# EAGLE library part NU32V7_SLIDE_SW (library CC1310F128RGZT)
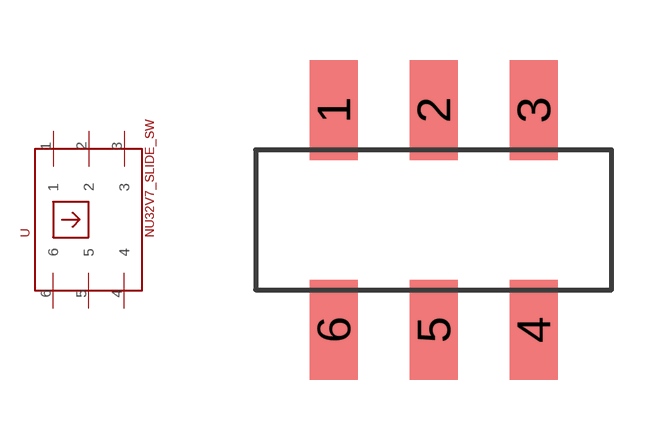
[diagram p4: symbol with the pads of NU32V7_SLIDE_SW; footprint NU32V7_SLIDE_SW]

Designator prefix -

## NU32V7_SLIDE_SW  [NU32V7_SLIDE_SW]
1  1
2  2
3  3
4  4
5  5
6  6

## Footprint NU32V7_SLIDE_SW (pad centres in mm)
smd 1.2 x 2.5: 1 -2.5,2.75; 2 0,2.75; 3 2.5,2.75; 4 2.5,-2.75; 5 0,-2.75; 6 -2.5,-2.75